# Altium footprint library 1n4148 smd.PcbLib: 1 footprints
Each footprint in its own frame and in the unit in brackets; x right, y up, seen from the top. Pads: shape width x height; smd on the part's side, far side on the other; paste and mask are expansions set on the pad; w line width, h text height; cw(c..) or ccw(c..) is an arc to the next point about the centre after c.
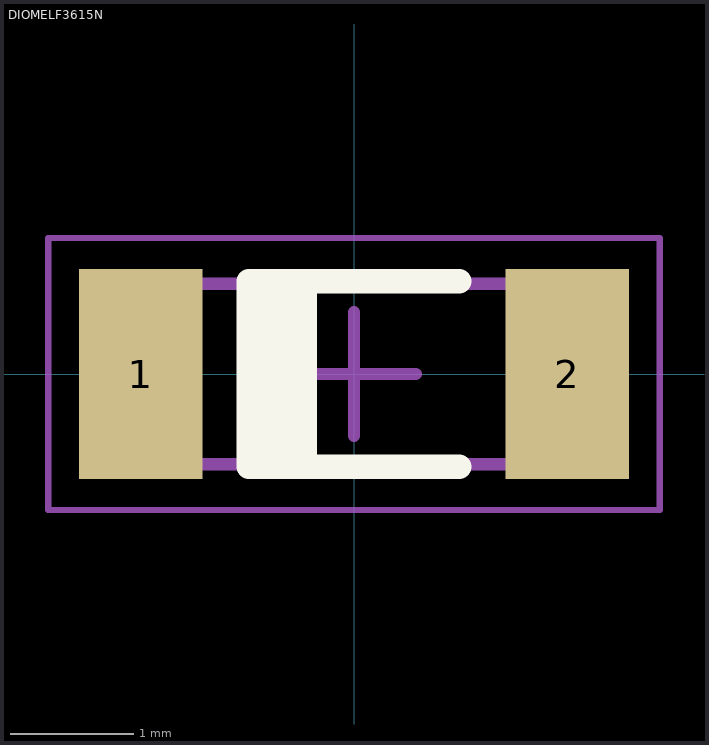
[diagram p0: the footprint, top view; thin cyan lines are the x and y axes]

## DIOMELF3615N [mm] "MELF Diode, 2-Leads, Body 3,55x1,45mm, IPC Medium Density"
height 1.46
pads (2):
  rect 1x1.7 smd: 1(-1.725,0) 2(1.725,0)
Top Overlay:
  rectangle: -0.85,-0.75 -0.3,0.75
  lines w0.2: 0.85,-0.75 -0.85,-0.75 -0.85,0.75 0.85,0.75
Mechanical 13:
  lines w0.1: -1.8,-0.73 -1.8,0.73 1.8,0.73 1.8,-0.73 -1.8,-0.73
Mechanical 15:
  lines w0.05: -2.475,-1.1 -2.475,1.1 2.475,1.1 2.475,-1.1 -2.475,-1.1
  lines w0.1: -0.5,0 0.5,0 ; 0,-0.5 0,0.5
3D body: height 1.6, standoff 0, extent -1.85,-0.762 1.85,0.838